# EAGLE library part UC3842-5_14 (library linear)
PWM sterownik zasilacza impulsowego
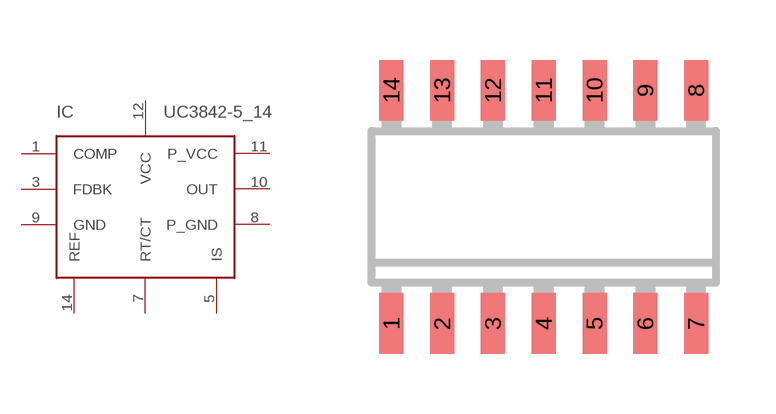
[diagram p258: symbol with the pads of SO14; footprint SO14]

Designator prefix IC

## UC3842-5_14  [SO14]
1  COMP  in
3  FDBK  in
5  IS  out
7  RT/CT  out
8  P_GND  pwr
9  GND  pwr
10  OUT  out
11  P_VCC  pwr
12  VCC  pwr
14  REF  out

## Footprint SO14 (pad centres in mm)
Small Outline Package 14
smd 0.6 x 1.524: 1 -3.81,-2.935; 2 -2.54,-2.935; 3 -1.27,-2.935; 4 0,-2.935; 5 1.27,-2.935; 6 2.54,-2.935; 7 3.81,-2.935; 8 3.81,2.9; 9 2.54,2.9; 10 1.27,2.9; 11 0,2.9; 12 -1.27,2.9; 13 -2.54,2.9; 14 -3.81,2.9